# EAGLE library part QF4A512 (library quickfilter)
4-Channel Programmable Signal Converter (PSC)
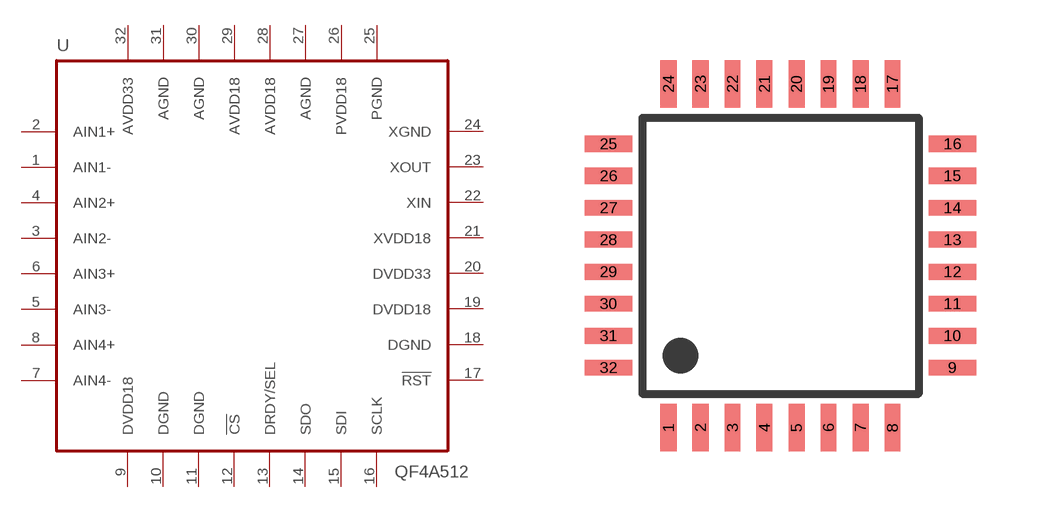
[diagram p0: symbol with the pads of LQFP-7X7-32; footprint LQFP-7X7-32]

Designator prefix U

## QF4A512  [LQFP-7X7-32]
1  AIN1-  in
2  AIN1+  in
3  AIN2-  in
4  AIN2+  in
5  AIN3-  in
6  AIN3+  in
7  AIN4-  in
8  AIN4+  in
9  DVDD18  pwr
10  DGND  pwr
11  DGND  pwr
12  !CS!  in
13  DRDY/SEL
14  SDO  out
15  SDI  in
16  SCLK  in
17  !RST!  in
18  DGND  pwr
19  DVDD18  pwr
20  DVDD33  pwr
21  XVDD18  pwr
22  XIN  in
23  XOUT  out
24  XGND  pwr
25  PGND  pwr
26  PVDD18  pwr
27  AGND  pwr
28  AVDD18  pwr
29  AVDD18  pwr
30  AGND  pwr
31  AGND  pwr
32  AVDD33  pwr

## Footprint LQFP-7X7-32 (pad centres in mm)
LQFP-32 package 7x7 mm case, 0.8 mm lead pitch
smd 0.4 x 1.2: 1 -2.8,-4.3; 2 -2,-4.3; 3 -1.2,-4.3; 4 -0.4,-4.3; 5 0.4,-4.3; 6 1.2,-4.3; 7 2,-4.3; 8 2.8,-4.3; 17 2.8,4.3; 18 2,4.3; 19 1.2,4.3; 20 0.4,4.3; 21 -0.4,4.3; 22 -1.2,4.3; 23 -2,4.3; 24 -2.8,4.3
smd 1.2 x 0.4: 9 4.3,-2.8; 10 4.3,-2; 11 4.3,-1.2; 12 4.3,-0.4; 13 4.3,0.4; 14 4.3,1.2; 15 4.3,2; 16 4.3,2.8; 25 -4.3,2.8; 26 -4.3,2; 27 -4.3,1.2; 28 -4.3,0.4; 29 -4.3,-0.4; 30 -4.3,-1.2; 31 -4.3,-2; 32 -4.3,-2.8